# Altium integrated library NSC Interface.IntLib: 1288 symbols (part 39 of 45)
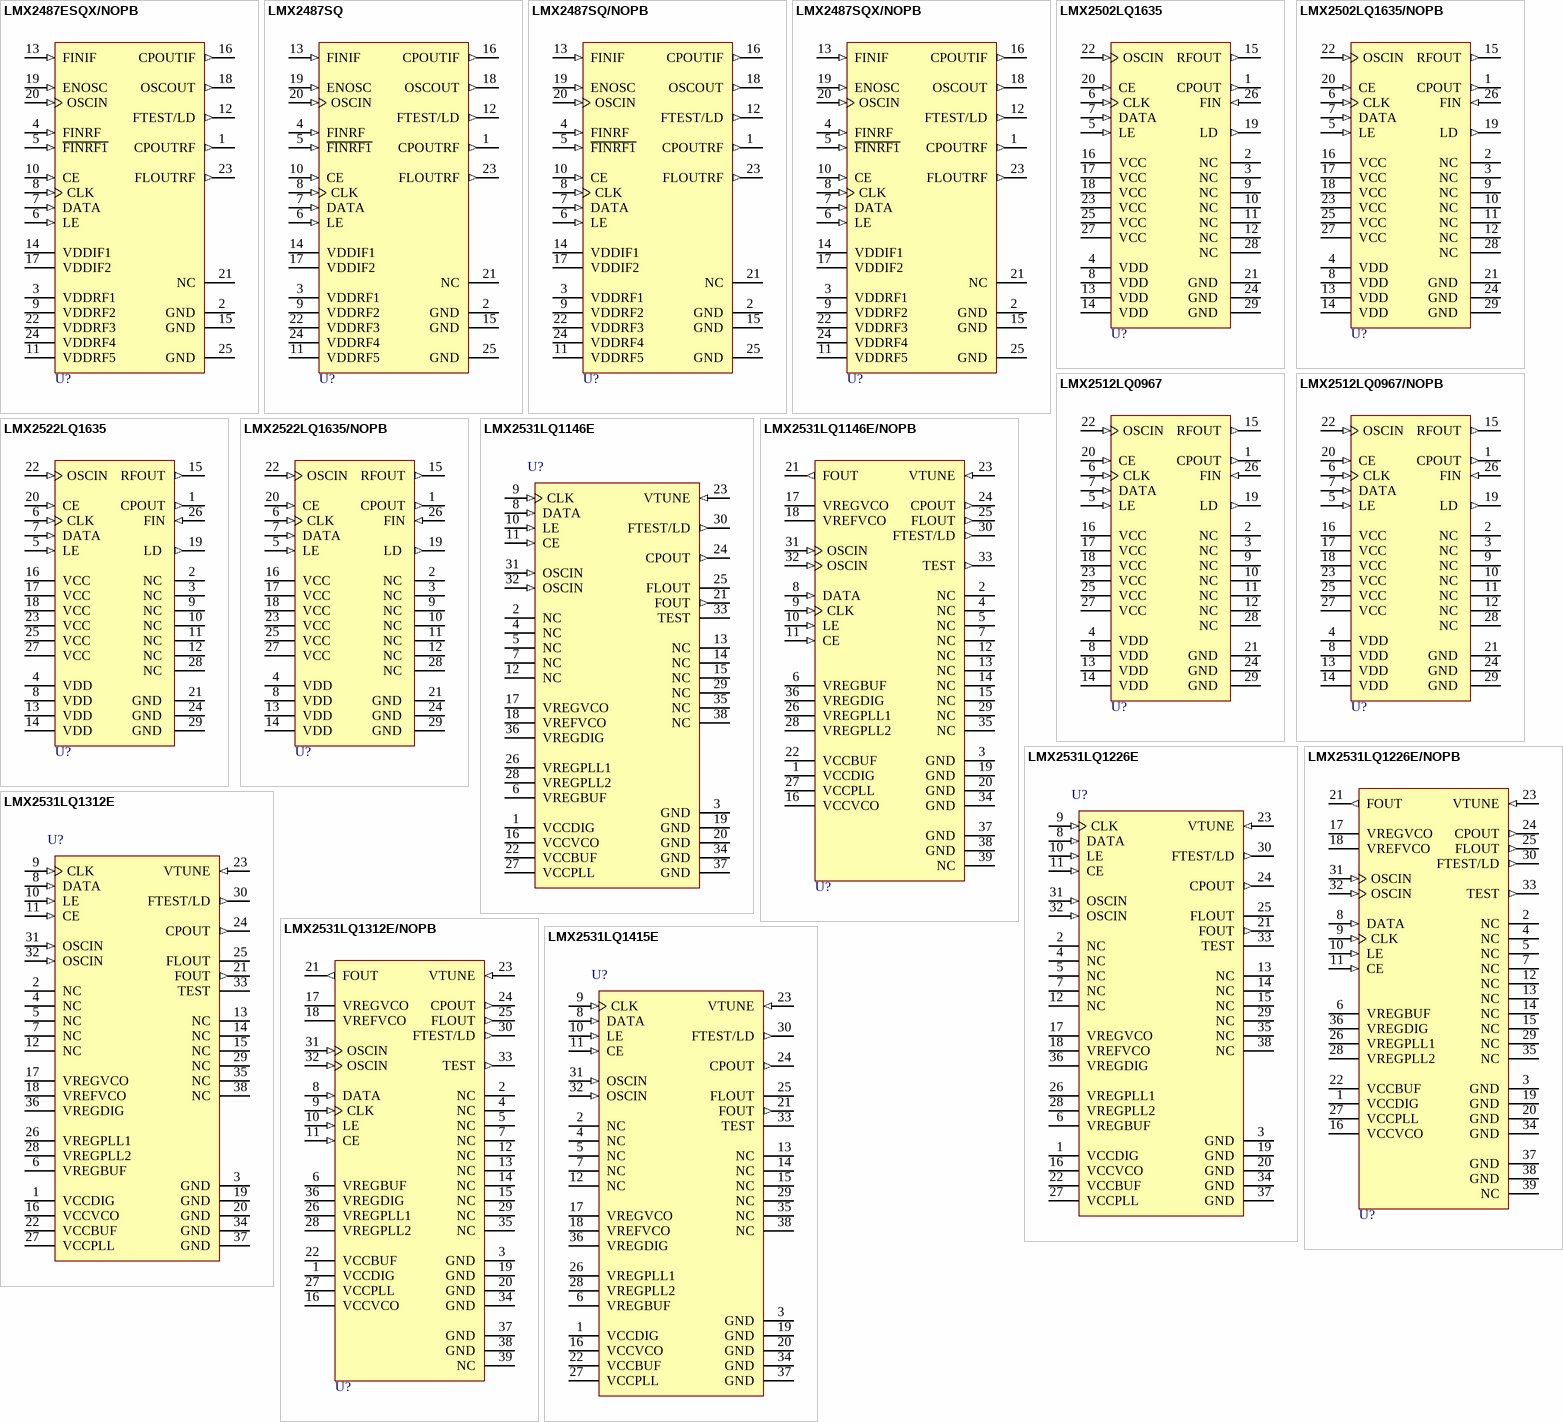
[diagram p150: symbols LMX2487ESQX/NOPB to LMX2531LQ1415E]

## LMX2531LQ1226E
designator U?
High Performance Frequency Synthesizer System with Integrated VCO, 36-pin LLP; PartNumber: LMX2531LQ1226E; Manufacturer: National Semiconductor; PackageTopMarking: NS*UZXYTT*311226E; PowerWise: Y; CompType: Interface IC; Published: 4-Dec-2008; LatestRevisionDate: 1-Mar-2010; LatestRevisionNote: Updated datasheet to revision Dec-2009; DatasheetVersion: Dec-2009; PackageVersion: revB, Feb-2008; PackageReference: LQA36D; Publisher: Altium Limited; PackageDescription: LLP, Plastic, Quad, 6 x 6 x 0.8mm Body, 36 Lead, 0.5mm Pitch, Custom; RoHS: Y; PinCount: 36; ComponentLink1Description: LMX2531LQ1226E Datasheet; ComponentLink1URL: http://www.national.com/ds/LM/LMX2531.pdf; ComponentLink2Description: LMX2531LQ1226E Web Page; ComponentLink2URL: http://www.national.com/pf/LM/LMX2531LQ1226E.html; ComponentLink3Description: LQA36A Package Page; ComponentLink3URL: http://www.national.com/packaging/folders/lqa36a.html
footprint LQA36D (PQFN, 36-Leads, Body 6x6mm, Pitch 0.5mm, NSC Recommended)
pins: 1 VCCDIG (power), 2 NC, 3 GND (power), 4 NC, 5 NC, 6 VREGBUF (power), 7 NC, 8 DATA (in), 9 CLK (in), 10 LE (in), 11 CE (in), 12 NC, 13 NC, 14 NC, 15 NC, 16 VCCVCO (power), 17 VREGVCO (power), 18 VREFVCO (power), 19 GND (power), 20 GND (power), 21 FOUT (out), 22 VCCBUF (power), 23 VTUNE (in), 24 CPOUT (out), 25 FLOUT (oc), 26 VREGPLL1 (power), 27 VCCPLL (power), 28 VREGPLL2 (power), 29 NC, 30 FTEST/LD (out), 31 OSCIN (in), 32 OSCIN (in), 33 TEST, 34 GND (power), 35 NC, 36 VREGDIG (power), 37 GND, 38 NC

## LMX2531LQ1226E/NOPB
designator U?
High Performance Frequency Synthesizer System with Integrated VCO, 36-pin LLP, Pb-Free; PartNumber: LMX2531LQ1226E/NOPB; Manufacturer: National Semiconductor; PackageTopMarking: NS*UZXYTTE#*311226E; PowerWise: Y; CompType: Interface IC; Published: 1-Mar-2010; DatasheetVersion: Dec-2009; PackageVersion: revC, Oct-2003; PackageReference: LQA36A; Publisher: Altium Limited; PackageDescription: LLP, Plastic, Quad, 6 x 6 x 0.8mm Body, 36 Lead, 0.5mm Pitch, Custom; Supplier 1: Digi-Key; Supplier Part Number 1: LMX2531LQ1226E-ND; RoHS: Y; PinCount: 36; ComponentLink1Description: LMX2531 Datasheet; ComponentLink1URL: http://www.national.com/ds/LM/LMX2531.pdf; ComponentLink2Description: LMX2531 Web Page; ComponentLink2URL: http://www.national.com/pf/LM/LMX2531.html; ComponentLink3Description: LQA36A Package Page; ComponentLink3URL: http://www.national.com/packaging/folders/lqa36a.html
footprint LQA36A (PQFN, 36-Leads, Body 6x6mm, Pitch 0.5mm, NSC Recommended)
pins: 1 VCCDIG (power), 2 NC, 3 GND (power), 4 NC, 5 NC, 6 VREGBUF (power), 7 NC, 8 DATA (in), 9 CLK (in), 10 LE (in), 11 CE (in), 12 NC, 13 NC, 14 NC, 15 NC, 16 VCCVCO (power), 17 VREGVCO (power), 18 VREFVCO (power), 19 GND (power), 20 GND (power), 21 FOUT (out), 22 VCCBUF (power), 23 VTUNE (in), 24 CPOUT (out), 25 FLOUT (out), 26 VREGPLL1 (power), 27 VCCPLL (power), 28 VREGPLL2 (power), 29 NC, 30 FTEST/LD (out), 31 OSCIN (in), 32 OSCIN (in), 33 TEST (out), 34 GND (power), 35 NC, 36 VREGDIG (power), 37 GND (power), 38 GND (power), 39 NC

## LMX2531LQ1312E
designator U?
High Performance Frequency Synthesizer System with Integrated VCO, 36-pin LLP; PartNumber: LMX2531LQ1312E; Manufacturer: National Semiconductor; PackageTopMarking: NS*UZXYTT*311312E; PowerWise: Y; CompType: Interface IC; Published: 4-Dec-2008; LatestRevisionDate: 1-Mar-2010; LatestRevisionNote: Updated datasheet to revision Dec-2009; DatasheetVersion: Dec-2009; PackageVersion: revB, Feb-2008; PackageReference: LQA36D; Publisher: Altium Limited; PackageDescription: LLP, Plastic, Quad, 6 x 6 x 0.8mm Body, 36 Lead, 0.5mm Pitch, Custom; Supplier 1: Farnell; Supplier Part Number 1: 1609185; RoHS: Y; PinCount: 36; ComponentLink1Description: LMX2531LQ1312E Datasheet; ComponentLink1URL: http://www.national.com/ds/LM/LMX2531.pdf; ComponentLink2Description: LMX2531LQ1312E Web Page; ComponentLink2URL: http://www.national.com/pf/LM/LMX2531LQ1312E.html; ComponentLink3Description: LQA36A Package Page; ComponentLink3URL: http://www.national.com/packaging/folders/lqa36a.html
footprint LQA36D (PQFN, 36-Leads, Body 6x6mm, Pitch 0.5mm, NSC Recommended)
pins: 1 VCCDIG (power), 2 NC, 3 GND (power), 4 NC, 5 NC, 6 VREGBUF (power), 7 NC, 8 DATA (in), 9 CLK (in), 10 LE (in), 11 CE (in), 12 NC, 13 NC, 14 NC, 15 NC, 16 VCCVCO (power), 17 VREGVCO (power), 18 VREFVCO (power), 19 GND (power), 20 GND (power), 21 FOUT (out), 22 VCCBUF (power), 23 VTUNE (in), 24 CPOUT (out), 25 FLOUT (oc), 26 VREGPLL1 (power), 27 VCCPLL (power), 28 VREGPLL2 (power), 29 NC, 30 FTEST/LD (out), 31 OSCIN (in), 32 OSCIN (in), 33 TEST, 34 GND (power), 35 NC, 36 VREGDIG (power), 37 GND, 38 NC

## LMX2531LQ1312E/NOPB
designator U?
High Performance Frequency Synthesizer System with Integrated VCO, 36-pin LLP, Pb-Free; PartNumber: LMX2531LQ1312E/NOPB; Manufacturer: National Semiconductor; PackageTopMarking: NS*UZXYTTE#*311312E; PowerWise: Y; CompType: Interface IC; Published: 1-Mar-2010; DatasheetVersion: Dec-2009; PackageVersion: revC, Oct-2003; PackageReference: LQA36A; Publisher: Altium Limited; PackageDescription: LLP, Plastic, Quad, 6 x 6 x 0.8mm Body, 36 Lead, 0.5mm Pitch, Custom; Supplier 1: Digi-Key; Supplier Part Number 1: LMX2531LQ1312E-ND; RoHS: Y; PinCount: 36; ComponentLink1Description: LMX2531 Datasheet; ComponentLink1URL: http://www.national.com/ds/LM/LMX2531.pdf; ComponentLink2Description: LMX2531 Web Page; ComponentLink2URL: http://www.national.com/pf/LM/LMX2531.html; ComponentLink3Description: LQA36A Package Page; ComponentLink3URL: http://www.national.com/packaging/folders/lqa36a.html
footprint LQA36A (PQFN, 36-Leads, Body 6x6mm, Pitch 0.5mm, NSC Recommended)
pins: 1 VCCDIG (power), 2 NC, 3 GND (power), 4 NC, 5 NC, 6 VREGBUF (power), 7 NC, 8 DATA (in), 9 CLK (in), 10 LE (in), 11 CE (in), 12 NC, 13 NC, 14 NC, 15 NC, 16 VCCVCO (power), 17 VREGVCO (power), 18 VREFVCO (power), 19 GND (power), 20 GND (power), 21 FOUT (out), 22 VCCBUF (power), 23 VTUNE (in), 24 CPOUT (out), 25 FLOUT (out), 26 VREGPLL1 (power), 27 VCCPLL (power), 28 VREGPLL2 (power), 29 NC, 30 FTEST/LD (out), 31 OSCIN (in), 32 OSCIN (in), 33 TEST (out), 34 GND (power), 35 NC, 36 VREGDIG (power), 37 GND (power), 38 GND (power), 39 NC

## LMX2531LQ1415E
designator U?
High Performance Frequency Synthesizer System with Integrated VCO, 36-pin LLP; PartNumber: LMX2531LQ1415E; Manufacturer: National Semiconductor; PackageTopMarking: NS*UZXYTT*311415E; PowerWise: Y; CompType: Interface IC; Published: 4-Dec-2008; LatestRevisionDate: 1-Mar-2010; LatestRevisionNote: Updated datasheet to revision Dec-2009; DatasheetVersion: Dec-2009; PackageVersion: revB, Feb-2008; PackageReference: LQA36D; Publisher: Altium Limited; PackageDescription: LLP, Plastic, Quad, 6 x 6 x 0.8mm Body, 36 Lead, 0.5mm Pitch, Custom; Supplier 1: Farnell; Supplier Part Number 1: 1609186; RoHS: Y; PinCount: 36; ComponentLink1Description: LMX2531LQ1415E Datasheet; ComponentLink1URL: http://www.national.com/ds/LM/LMX2531.pdf; ComponentLink2Description: LMX2531LQ1415E Web Page; ComponentLink2URL: http://www.national.com/pf/LM/LMX2531LQ1415E.html; ComponentLink3Description: LQA36A Package Page; ComponentLink3URL: http://www.national.com/packaging/folders/lqa36a.html
footprint LQA36D (PQFN, 36-Leads, Body 6x6mm, Pitch 0.5mm, NSC Recommended)
pins: 1 VCCDIG (power), 2 NC, 3 GND (power), 4 NC, 5 NC, 6 VREGBUF (power), 7 NC, 8 DATA (in), 9 CLK (in), 10 LE (in), 11 CE (in), 12 NC, 13 NC, 14 NC, 15 NC, 16 VCCVCO (power), 17 VREGVCO (power), 18 VREFVCO (power), 19 GND (power), 20 GND (power), 21 FOUT (out), 22 VCCBUF (power), 23 VTUNE (in), 24 CPOUT (out), 25 FLOUT (oc), 26 VREGPLL1 (power), 27 VCCPLL (power), 28 VREGPLL2 (power), 29 NC, 30 FTEST/LD (out), 31 OSCIN (in), 32 OSCIN (in), 33 TEST, 34 GND (power), 35 NC, 36 VREGDIG (power), 37 GND, 38 NC

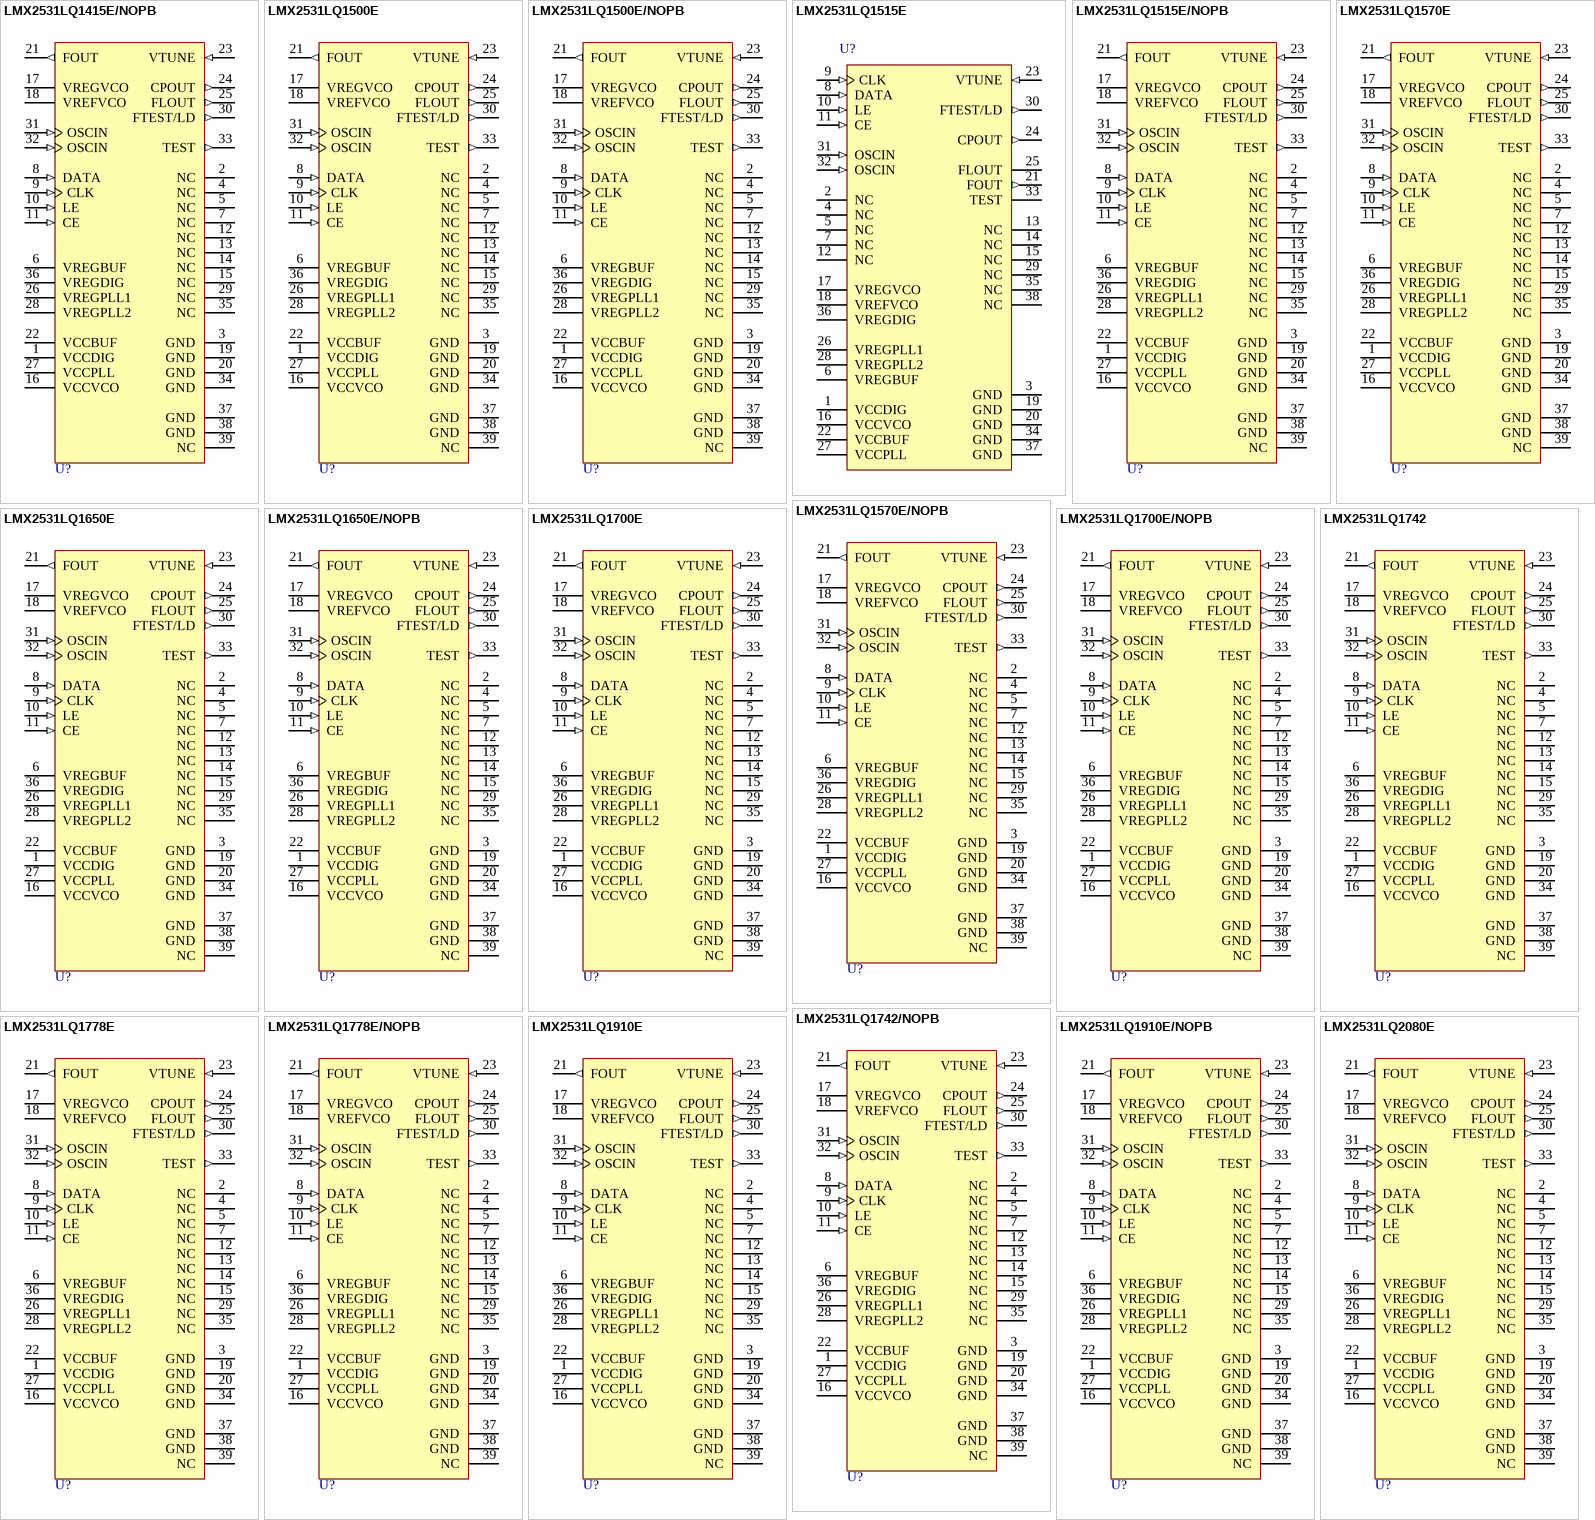
[diagram p95: symbols LMX2531LQ1415E/NOPB to LMX2531LQ2080E]

## LMX2531LQ1415E/NOPB
designator U?
High Performance Frequency Synthesizer System with Integrated VCO, 36-pin LLP, Pb-Free; PartNumber: LMX2531LQ1415E/NOPB; Manufacturer: National Semiconductor; PackageTopMarking: NS*UZXYTTE#*311415E; PowerWise: Y; CompType: Interface IC; Published: 1-Mar-2010; DatasheetVersion: Dec-2009; PackageVersion: revC, Oct-2003; PackageReference: LQA36A; Publisher: Altium Limited; PackageDescription: LLP, Plastic, Quad, 6 x 6 x 0.8mm Body, 36 Lead, 0.5mm Pitch, Custom; Supplier 1: Digi-Key; Supplier Part Number 1: LMX2531LQ1415E-ND; RoHS: Y; PinCount: 36; ComponentLink1Description: LMX2531 Datasheet; ComponentLink1URL: http://www.national.com/ds/LM/LMX2531.pdf; ComponentLink2Description: LMX2531 Web Page; ComponentLink2URL: http://www.national.com/pf/LM/LMX2531.html; ComponentLink3Description: LQA36A Package Page; ComponentLink3URL: http://www.national.com/packaging/folders/lqa36a.html
footprint LQA36A (PQFN, 36-Leads, Body 6x6mm, Pitch 0.5mm, NSC Recommended)
pins: 1 VCCDIG (power), 2 NC, 3 GND (power), 4 NC, 5 NC, 6 VREGBUF (power), 7 NC, 8 DATA (in), 9 CLK (in), 10 LE (in), 11 CE (in), 12 NC, 13 NC, 14 NC, 15 NC, 16 VCCVCO (power), 17 VREGVCO (power), 18 VREFVCO (power), 19 GND (power), 20 GND (power), 21 FOUT (out), 22 VCCBUF (power), 23 VTUNE (in), 24 CPOUT (out), 25 FLOUT (out), 26 VREGPLL1 (power), 27 VCCPLL (power), 28 VREGPLL2 (power), 29 NC, 30 FTEST/LD (out), 31 OSCIN (in), 32 OSCIN (in), 33 TEST (out), 34 GND (power), 35 NC, 36 VREGDIG (power), 37 GND (power), 38 GND (power), 39 NC

## LMX2531LQ1500E
designator U?
High Performance Frequency Synthesizer System with Integrated VCO, 38-pin LLP; PartNumber: LMX2531LQ1500E; Manufacturer: National Semiconductor; PackageTopMarking: NS*UZXYTT*311500EB; PowerWise: Y; CompType: Interface IC; Published: 4-Dec-2008; LatestRevisionDate: 1-Mar-2010; LatestRevisionNote: Updated datasheet to revision Dec-2009; DatasheetVersion: Dec-2009; PackageVersion: revC, Oct-2003; PackageReference: LQA36A; Publisher: Altium Limited; PackageDescription: LLP, Plastic, Quad, 6 x 6 x 0.8mm Body, 36 Lead, 0.5mm Pitch, Custom; RoHS: Y; PinCount: 36; ComponentLink1Description: LMX2531LQ1500EDatasheet; ComponentLink1URL: http://www.national.com/ds/LM/LMX2531.pdf; ComponentLink2Description: LMX2531LQ1500E Web Page; ComponentLink2URL: http://www.national.com/pf/LM/LMX2531LQ1500E.html; ComponentLink3Description: LQA36A Package Page; ComponentLink3URL: http://www.national.com/packaging/folders/lqa36a.html
footprint LQA36A (PQFN, 36-Leads, Body 6x6mm, Pitch 0.5mm, NSC Recommended)
pins: 1 VCCDIG (power), 2 NC, 3 GND (power), 4 NC, 5 NC, 6 VREGBUF (power), 7 NC, 8 DATA (in), 9 CLK (in), 10 LE (in), 11 CE (in), 12 NC, 13 NC, 14 NC, 15 NC, 16 VCCVCO (power), 17 VREGVCO (power), 18 VREFVCO (power), 19 GND (power), 20 GND (power), 21 FOUT (out), 22 VCCBUF (power), 23 VTUNE (in), 24 CPOUT (out), 25 FLOUT (out), 26 VREGPLL1 (power), 27 VCCPLL (power), 28 VREGPLL2 (power), 29 NC, 30 FTEST/LD (out), 31 OSCIN (in), 32 OSCIN (in), 33 TEST (out), 34 GND (power), 35 NC, 36 VREGDIG (power), 37 GND (power), 38 GND (power), 39 NC

## LMX2531LQ1500E/NOPB
designator U?
High Performance Frequency Synthesizer System with Integrated VCO, 36-pin LLP, Pb-Free; PartNumber: LMX2531LQ1500E/NOPB; Manufacturer: National Semiconductor; PackageTopMarking: NS*UZXYTTE#*311500EB; PowerWise: Y; CompType: Interface IC; Published: 1-Mar-2010; LatestRevisionDate: 1-Mar-2010; LatestRevisionNote: Updated datasheet to revision Dec-2009; DatasheetVersion: Dec-2009; PackageVersion: revC, Oct-2003; PackageReference: LQA36A; Publisher: Altium Limited; PackageDescription: LLP, Plastic, Quad, 6 x 6 x 0.8mm Body, 36 Lead, 0.5mm Pitch, Custom; Supplier 1: Digi-Key; Supplier Part Number 1: LMX2531LQ1500ETR-ND; Supplier 2: Digi-Key; Supplier Part Number 2: LMX2531LQ1500ECT-ND; Supplier 3: Digi-Key; Supplier Part Number 3: LMX2531LQ1500EDKR-ND; Supplier 4: Farnell; Supplier Part Number 4: 1694487; RoHS: Y; PinCount: 36; ComponentLink1Description: LMX2531LQ1500E Datasheet; ComponentLink1URL: http://www.national.com/ds/LM/LMX2531.pdf; ComponentLink2Description: LMX2531LQ1500E Web Page; ComponentLink2URL: http://www.national.com/pf/LM/LMX2531LQ1500E.html; ComponentLink3Description: LQA36A Package Page; ComponentLink3URL: http://www.national.com/packaging/folders/lqa36a.html
footprint LQA36A (PQFN, 36-Leads, Body 6x6mm, Pitch 0.5mm, NSC Recommended)
pins: 1 VCCDIG (power), 2 NC, 3 GND (power), 4 NC, 5 NC, 6 VREGBUF (power), 7 NC, 8 DATA (in), 9 CLK (in), 10 LE (in), 11 CE (in), 12 NC, 13 NC, 14 NC, 15 NC, 16 VCCVCO (power), 17 VREGVCO (power), 18 VREFVCO (power), 19 GND (power), 20 GND (power), 21 FOUT (out), 22 VCCBUF (power), 23 VTUNE (in), 24 CPOUT (out), 25 FLOUT (out), 26 VREGPLL1 (power), 27 VCCPLL (power), 28 VREGPLL2 (power), 29 NC, 30 FTEST/LD (out), 31 OSCIN (in), 32 OSCIN (in), 33 TEST (out), 34 GND (power), 35 NC, 36 VREGDIG (power), 37 GND (power), 38 GND (power), 39 NC

## LMX2531LQ1515E
designator U?
High Performance Frequency Synthesizer System with Integrated VCO, 36-pin LLP; PartNumber: LMX2531LQ1515E; Manufacturer: National Semiconductor; PackageTopMarking: NS*UZXYTT*311515E; PowerWise: Y; CompType: Interface IC; Published: 4-Dec-2008; LatestRevisionDate: 1-Mar-2010; LatestRevisionNote: Updated datasheet to revision Dec-2009; DatasheetVersion: Dec-2009; PackageVersion: revB, Feb-2008; PackageReference: LQA36D; Publisher: Altium Limited; PackageDescription: LLP, Plastic, Quad, 6 x 6 x 0.8mm Body, 36 Lead, 0.5mm Pitch, Custom; Supplier 1: Farnell; Supplier Part Number 1: 1609181; RoHS: Y; PinCount: 36; ComponentLink1Description: LMX2531LQ1515E Datasheet; ComponentLink1URL: http://www.national.com/ds/LM/LMX2531.pdf; ComponentLink2Description: LMX2531LQ1515E Web Page; ComponentLink2URL: http://www.national.com/pf/LM/LMX2531LQ1515E.html; ComponentLink3Description: LQA36A Package Page; ComponentLink3URL: http://www.national.com/packaging/folders/lqa36a.html
footprint LQA36D (PQFN, 36-Leads, Body 6x6mm, Pitch 0.5mm, NSC Recommended)
pins: 1 VCCDIG (power), 2 NC, 3 GND (power), 4 NC, 5 NC, 6 VREGBUF (power), 7 NC, 8 DATA (in), 9 CLK (in), 10 LE (in), 11 CE (in), 12 NC, 13 NC, 14 NC, 15 NC, 16 VCCVCO (power), 17 VREGVCO (power), 18 VREFVCO (power), 19 GND (power), 20 GND (power), 21 FOUT (out), 22 VCCBUF (power), 23 VTUNE (in), 24 CPOUT (out), 25 FLOUT (oc), 26 VREGPLL1 (power), 27 VCCPLL (power), 28 VREGPLL2 (power), 29 NC, 30 FTEST/LD (out), 31 OSCIN (in), 32 OSCIN (in), 33 TEST, 34 GND (power), 35 NC, 36 VREGDIG (power), 37 GND, 38 NC

## LMX2531LQ1515E/NOPB
designator U?
High Performance Frequency Synthesizer System with Integrated VCO, 36-pin LLP, Pb-Free; PartNumber: LMX2531LQ1515E/NOPB; Manufacturer: National Semiconductor; PackageTopMarking: NS*UZXYTTE#*311515E; PowerWise: Y; CompType: Interface IC; Published: 1-Mar-2010; DatasheetVersion: Dec-2009; PackageVersion: revC, Oct-2003; PackageReference: LQA36A; Publisher: Altium Limited; PackageDescription: LLP, Plastic, Quad, 6 x 6 x 0.8mm Body, 36 Lead, 0.5mm Pitch, Custom; Supplier 1: Digi-Key; Supplier Part Number 1: LMX2531LQ1515E/NOPBTR-ND; Supplier 2: Digi-Key; Supplier Part Number 2: LMX2531LQ1515E/NOPBCT-ND; Supplier 3: Digi-Key; Supplier Part Number 3: LMX2531LQ1515E/NOPBDKR-ND; Supplier 4: Farnell; Supplier Part Number 4: 1654247; RoHS: Y; PinCount: 36; ComponentLink1Description: LMX2531 Datasheet; ComponentLink1URL: http://www.national.com/ds/LM/LMX2531.pdf; ComponentLink2Description: LMX2531 Web Page; ComponentLink2URL: http://www.national.com/pf/LM/LMX2531.html; ComponentLink3Description: LQA36A Package Page; ComponentLink3URL: http://www.national.com/packaging/folders/lqa36a.html
footprint LQA36A (PQFN, 36-Leads, Body 6x6mm, Pitch 0.5mm, NSC Recommended)
pins: 1 VCCDIG (power), 2 NC, 3 GND (power), 4 NC, 5 NC, 6 VREGBUF (power), 7 NC, 8 DATA (in), 9 CLK (in), 10 LE (in), 11 CE (in), 12 NC, 13 NC, 14 NC, 15 NC, 16 VCCVCO (power), 17 VREGVCO (power), 18 VREFVCO (power), 19 GND (power), 20 GND (power), 21 FOUT (out), 22 VCCBUF (power), 23 VTUNE (in), 24 CPOUT (out), 25 FLOUT (out), 26 VREGPLL1 (power), 27 VCCPLL (power), 28 VREGPLL2 (power), 29 NC, 30 FTEST/LD (out), 31 OSCIN (in), 32 OSCIN (in), 33 TEST (out), 34 GND (power), 35 NC, 36 VREGDIG (power), 37 GND (power), 38 GND (power), 39 NC

## LMX2531LQ1570E
designator U?
High Performance Frequency Synthesizer System with Integrated VCO, 38-pin LLP; PartNumber: LMX2531LQ1570E; Manufacturer: National Semiconductor; PackageTopMarking: NS*UZXYTT*311570EB; PowerWise: Y; CompType: Interface IC; Published: 4-Dec-2008; LatestRevisionDate: 1-Mar-2010; LatestRevisionNote: Updated datasheet to revision Dec-2009; DatasheetVersion: Dec-2009; PackageVersion: revC, Oct-2003; PackageReference: LQA36A; Publisher: Altium Limited; PackageDescription: LLP, Plastic, Quad, 6 x 6 x 0.8mm Body, 36 Lead, 0.5mm Pitch, Custom; RoHS: Y; PinCount: 36; ComponentLink1Description: LMX2531LQ1570EDatasheet; ComponentLink1URL: http://www.national.com/ds/LM/LMX2531.pdf; ComponentLink2Description: LMX2531LQ1570E Web Page; ComponentLink2URL: http://www.national.com/pf/LM/LMX2531LQ1570E.html; ComponentLink3Description: LQA36A Package Page; ComponentLink3URL: http://www.national.com/packaging/folders/lqa36a.html
footprint LQA36A (PQFN, 36-Leads, Body 6x6mm, Pitch 0.5mm, NSC Recommended)
pins: 1 VCCDIG (power), 2 NC, 3 GND (power), 4 NC, 5 NC, 6 VREGBUF (power), 7 NC, 8 DATA (in), 9 CLK (in), 10 LE (in), 11 CE (in), 12 NC, 13 NC, 14 NC, 15 NC, 16 VCCVCO (power), 17 VREGVCO (power), 18 VREFVCO (power), 19 GND (power), 20 GND (power), 21 FOUT (out), 22 VCCBUF (power), 23 VTUNE (in), 24 CPOUT (out), 25 FLOUT (out), 26 VREGPLL1 (power), 27 VCCPLL (power), 28 VREGPLL2 (power), 29 NC, 30 FTEST/LD (out), 31 OSCIN (in), 32 OSCIN (in), 33 TEST (out), 34 GND (power), 35 NC, 36 VREGDIG (power), 37 GND (power), 38 GND (power), 39 NC

## LMX2531LQ1570E/NOPB
designator U?
High Performance Frequency Synthesizer System with Integrated VCO, 36-pin LLP, Pb-Free; PartNumber: LMX2531LQ1570E/NOPB; Manufacturer: National Semiconductor; PackageTopMarking: NS*UZXYTTE#*311570EB; PowerWise: Y; CompType: Interface IC; Published: 1-Mar-2010; DatasheetVersion: Dec-2009; PackageVersion: revC, Oct-2003; PackageReference: LQA36A; Publisher: Altium Limited; PackageDescription: LLP, Plastic, Quad, 6 x 6 x 0.8mm Body, 36 Lead, 0.5mm Pitch, Custom; Supplier 1: Digi-Key; Supplier Part Number 1: LMX2531LQ1570ETR-ND; Supplier 2: Digi-Key; Supplier Part Number 2: LMX2531LQ1570ECT-ND; Supplier 3: Digi-Key; Supplier Part Number 3: LMX2531LQ1570EDKR-ND; RoHS: Y; PinCount: 36; ComponentLink1Description: LMX2531 Datasheet; ComponentLink1URL: http://www.national.com/ds/LM/LMX2531.pdf; ComponentLink2Description: LMX2531 Web Page; ComponentLink2URL: http://www.national.com/pf/LM/LMX2531.html; ComponentLink3Description: LQA36A Package Page; ComponentLink3URL: http://www.national.com/packaging/folders/lqa36a.html
footprint LQA36A (PQFN, 36-Leads, Body 6x6mm, Pitch 0.5mm, NSC Recommended)
pins: 1 VCCDIG (power), 2 NC, 3 GND (power), 4 NC, 5 NC, 6 VREGBUF (power), 7 NC, 8 DATA (in), 9 CLK (in), 10 LE (in), 11 CE (in), 12 NC, 13 NC, 14 NC, 15 NC, 16 VCCVCO (power), 17 VREGVCO (power), 18 VREFVCO (power), 19 GND (power), 20 GND (power), 21 FOUT (out), 22 VCCBUF (power), 23 VTUNE (in), 24 CPOUT (out), 25 FLOUT (out), 26 VREGPLL1 (power), 27 VCCPLL (power), 28 VREGPLL2 (power), 29 NC, 30 FTEST/LD (out), 31 OSCIN (in), 32 OSCIN (in), 33 TEST (out), 34 GND (power), 35 NC, 36 VREGDIG (power), 37 GND (power), 38 GND (power), 39 NC

## LMX2531LQ1650E
designator U?
High Performance Frequency Synthesizer System with Integrated VCO, 38-pin LLP; PartNumber: LMX2531LQ1650E; Manufacturer: National Semiconductor; PackageTopMarking: NS*UZXYTT*311650EA; PowerWise: Y; CompType: Interface IC; Published: 4-Dec-2008; LatestRevisionDate: 1-Mar-2010; LatestRevisionNote: Updated datasheet to revision Dec-2009; DatasheetVersion: Dec-2009; PackageVersion: revC, Oct-2003; PackageReference: LQA36A; Publisher: Altium Limited; PackageDescription: LLP, Plastic, Quad, 6 x 6 x 0.8mm Body, 36 Lead, 0.5mm Pitch, Custom; RoHS: Y; PinCount: 36; ComponentLink1Description: LMX2531LQ1650EDatasheet; ComponentLink1URL: http://www.national.com/ds/LM/LMX2531.pdf; ComponentLink2Description: LMX2531LQ1650E Web Page; ComponentLink2URL: http://www.national.com/pf/LM/LMX2531LQ1650E.html; ComponentLink3Description: LQA36A Package Page; ComponentLink3URL: http://www.national.com/packaging/folders/lqa36a.html
footprint LQA36A (PQFN, 36-Leads, Body 6x6mm, Pitch 0.5mm, NSC Recommended)
pins: 1 VCCDIG (power), 2 NC, 3 GND (power), 4 NC, 5 NC, 6 VREGBUF (power), 7 NC, 8 DATA (in), 9 CLK (in), 10 LE (in), 11 CE (in), 12 NC, 13 NC, 14 NC, 15 NC, 16 VCCVCO (power), 17 VREGVCO (power), 18 VREFVCO (power), 19 GND (power), 20 GND (power), 21 FOUT (out), 22 VCCBUF (power), 23 VTUNE (in), 24 CPOUT (out), 25 FLOUT (out), 26 VREGPLL1 (power), 27 VCCPLL (power), 28 VREGPLL2 (power), 29 NC, 30 FTEST/LD (out), 31 OSCIN (in), 32 OSCIN (in), 33 TEST (out), 34 GND (power), 35 NC, 36 VREGDIG (power), 37 GND (power), 38 GND (power), 39 NC

## LMX2531LQ1650E/NOPB
designator U?
High Performance Frequency Synthesizer System with Integrated VCO, 36-pin LLP, Pb-Free; PartNumber: LMX2531LQ1650E/NOPB; Manufacturer: National Semiconductor; PackageTopMarking: NS*UZXYTTE#*311650EA; PowerWise: Y; CompType: Interface IC; Published: 1-Mar-2010; DatasheetVersion: Dec-2009; PackageVersion: revC, Oct-2003; PackageReference: LQA36A; Publisher: Altium Limited; PackageDescription: LLP, Plastic, Quad, 6 x 6 x 0.8mm Body, 36 Lead, 0.5mm Pitch, Custom; RoHS: Y; PinCount: 36; ComponentLink1Description: LMX2531 Datasheet; ComponentLink1URL: http://www.national.com/ds/LM/LMX2531.pdf; ComponentLink2Description: LMX2531 Web Page; ComponentLink2URL: http://www.national.com/pf/LM/LMX2531.html; ComponentLink3Description: LQA36A Package Page; ComponentLink3URL: http://www.national.com/packaging/folders/lqa36a.html
footprint LQA36A (PQFN, 36-Leads, Body 6x6mm, Pitch 0.5mm, NSC Recommended)
pins: 1 VCCDIG (power), 2 NC, 3 GND (power), 4 NC, 5 NC, 6 VREGBUF (power), 7 NC, 8 DATA (in), 9 CLK (in), 10 LE (in), 11 CE (in), 12 NC, 13 NC, 14 NC, 15 NC, 16 VCCVCO (power), 17 VREGVCO (power), 18 VREFVCO (power), 19 GND (power), 20 GND (power), 21 FOUT (out), 22 VCCBUF (power), 23 VTUNE (in), 24 CPOUT (out), 25 FLOUT (out), 26 VREGPLL1 (power), 27 VCCPLL (power), 28 VREGPLL2 (power), 29 NC, 30 FTEST/LD (out), 31 OSCIN (in), 32 OSCIN (in), 33 TEST (out), 34 GND (power), 35 NC, 36 VREGDIG (power), 37 GND (power), 38 GND (power), 39 NC

## LMX2531LQ1700E
designator U?
High Performance Frequency Synthesizer System with Integrated VCO, 38-pin LLP; PartNumber: LMX2531LQ1700E; Manufacturer: National Semiconductor; PackageTopMarking: NS*UZXYTT*311700EB; PowerWise: Y; CompType: Interface IC; Published: 4-Dec-2008; LatestRevisionDate: 1-Mar-2010; LatestRevisionNote: Updated datasheet to revision Dec-2009; DatasheetVersion: Dec-2009; PackageVersion: revC, Oct-2003; PackageReference: LQA36A; Publisher: Altium Limited; PackageDescription: LLP, Plastic, Quad, 6 x 6 x 0.8mm Body, 36 Lead, 0.5mm Pitch, Custom; RoHS: Y; PinCount: 36; ComponentLink1Description: LMX2531LQ1700EDatasheet; ComponentLink1URL: http://www.national.com/ds/LM/LMX2531.pdf; ComponentLink2Description: LMX2531LQ1700E Web Page; ComponentLink2URL: http://www.national.com/pf/LM/LMX2531LQ1700E.html; ComponentLink3Description: LQA36A Package Page; ComponentLink3URL: http://www.national.com/packaging/folders/lqa36a.html
footprint LQA36A (PQFN, 36-Leads, Body 6x6mm, Pitch 0.5mm, NSC Recommended)
pins: 1 VCCDIG (power), 2 NC, 3 GND (power), 4 NC, 5 NC, 6 VREGBUF (power), 7 NC, 8 DATA (in), 9 CLK (in), 10 LE (in), 11 CE (in), 12 NC, 13 NC, 14 NC, 15 NC, 16 VCCVCO (power), 17 VREGVCO (power), 18 VREFVCO (power), 19 GND (power), 20 GND (power), 21 FOUT (out), 22 VCCBUF (power), 23 VTUNE (in), 24 CPOUT (out), 25 FLOUT (out), 26 VREGPLL1 (power), 27 VCCPLL (power), 28 VREGPLL2 (power), 29 NC, 30 FTEST/LD (out), 31 OSCIN (in), 32 OSCIN (in), 33 TEST (out), 34 GND (power), 35 NC, 36 VREGDIG (power), 37 GND (power), 38 GND (power), 39 NC

## LMX2531LQ1700E/NOPB
designator U?
High Performance Frequency Synthesizer System with Integrated VCO, 36-pin LLP, Pb-Free; PartNumber: LMX2531LQ1700E/NOPB; Manufacturer: National Semiconductor; PackageTopMarking: NS*UZXYTTE#*311700EB; PowerWise: Y; CompType: Interface IC; Published: 1-Mar-2010; DatasheetVersion: Dec-2009; PackageVersion: revC, Oct-2003; PackageReference: LQA36A; Publisher: Altium Limited; PackageDescription: LLP, Plastic, Quad, 6 x 6 x 0.8mm Body, 36 Lead, 0.5mm Pitch, Custom; RoHS: Y; PinCount: 36; ComponentLink1Description: LMX2531 Datasheet; ComponentLink1URL: http://www.national.com/ds/LM/LMX2531.pdf; ComponentLink2Description: LMX2531 Web Page; ComponentLink2URL: http://www.national.com/pf/LM/LMX2531.html; ComponentLink3Description: LQA36A Package Page; ComponentLink3URL: http://www.national.com/packaging/folders/lqa36a.html
footprint LQA36A (PQFN, 36-Leads, Body 6x6mm, Pitch 0.5mm, NSC Recommended)
pins: 1 VCCDIG (power), 2 NC, 3 GND (power), 4 NC, 5 NC, 6 VREGBUF (power), 7 NC, 8 DATA (in), 9 CLK (in), 10 LE (in), 11 CE (in), 12 NC, 13 NC, 14 NC, 15 NC, 16 VCCVCO (power), 17 VREGVCO (power), 18 VREFVCO (power), 19 GND (power), 20 GND (power), 21 FOUT (out), 22 VCCBUF (power), 23 VTUNE (in), 24 CPOUT (out), 25 FLOUT (out), 26 VREGPLL1 (power), 27 VCCPLL (power), 28 VREGPLL2 (power), 29 NC, 30 FTEST/LD (out), 31 OSCIN (in), 32 OSCIN (in), 33 TEST (out), 34 GND (power), 35 NC, 36 VREGDIG (power), 37 GND (power), 38 GND (power), 39 NC

## LMX2531LQ1742
designator U?
High Performance Frequency Synthesizer System with Integrated VCO, 38-pin LLP; PartNumber: LMX2531LQ1742; Manufacturer: National Semiconductor; PackageTopMarking: NS*UZXYTT*311742A; PowerWise: Y; CompType: Interface IC; Published: 4-Dec-2008; LatestRevisionDate: 1-Mar-2010; LatestRevisionNote: Updated datasheet to revision Dec-2009; DatasheetVersion: Dec-2009; PackageVersion: revC, Oct-2003; PackageReference: LQA36A; Publisher: Altium Limited; PackageDescription: LLP, Plastic, Quad, 6 x 6 x 0.8mm Body, 36 Lead, 0.5mm Pitch, Custom; Supplier 1: Farnell; Supplier Part Number 1: 1471253; RoHS: Y; PinCount: 36; ComponentLink1Description: LMX2531LQ1742Datasheet; ComponentLink1URL: http://www.national.com/ds/LM/LMX2531.pdf; ComponentLink2Description: LMX2531LQ1742 Web Page; ComponentLink2URL: http://www.national.com/pf/LM/LMX2531LQ1742.html; ComponentLink3Description: LQA36A Package Page; ComponentLink3URL: http://www.national.com/packaging/folders/lqa36a.html
footprint LQA36A (PQFN, 36-Leads, Body 6x6mm, Pitch 0.5mm, NSC Recommended)
pins: 1 VCCDIG (power), 2 NC, 3 GND (power), 4 NC, 5 NC, 6 VREGBUF (power), 7 NC, 8 DATA (in), 9 CLK (in), 10 LE (in), 11 CE (in), 12 NC, 13 NC, 14 NC, 15 NC, 16 VCCVCO (power), 17 VREGVCO (power), 18 VREFVCO (power), 19 GND (power), 20 GND (power), 21 FOUT (out), 22 VCCBUF (power), 23 VTUNE (in), 24 CPOUT (out), 25 FLOUT (out), 26 VREGPLL1 (power), 27 VCCPLL (power), 28 VREGPLL2 (power), 29 NC, 30 FTEST/LD (out), 31 OSCIN (in), 32 OSCIN (in), 33 TEST (out), 34 GND (power), 35 NC, 36 VREGDIG (power), 37 GND (power), 38 GND (power), 39 NC

## LMX2531LQ1742/NOPB
designator U?
High Performance Frequency Synthesizer System with Integrated VCO, 36-pin LLP, Pb-Free; PartNumber: LMX2531LQ1742/NOPB; Manufacturer: National Semiconductor; PackageTopMarking: NS*UZXYTTE#*311742A; PowerWise: Y; CompType: Interface IC; Published: 1-Mar-2010; DatasheetVersion: Dec-2009; PackageVersion: revC, Oct-2003; PackageReference: LQA36A; Publisher: Altium Limited; PackageDescription: LLP, Plastic, Quad, 6 x 6 x 0.8mm Body, 36 Lead, 0.5mm Pitch, Custom; Supplier 1: Digi-Key; Supplier Part Number 1: LMX2531LQ1742TR-ND; Supplier 2: Digi-Key; Supplier Part Number 2: LMX2531LQ1742CT-ND; Supplier 3: Digi-Key; Supplier Part Number 3: LMX2531LQ1742DKR-ND; RoHS: Y; PinCount: 36; ComponentLink1Description: LMX2531 Datasheet; ComponentLink1URL: http://www.national.com/ds/LM/LMX2531.pdf; ComponentLink2Description: LMX2531 Web Page; ComponentLink2URL: http://www.national.com/pf/LM/LMX2531.html; ComponentLink3Description: LQA36A Package Page; ComponentLink3URL: http://www.national.com/packaging/folders/lqa36a.html
footprint LQA36A (PQFN, 36-Leads, Body 6x6mm, Pitch 0.5mm, NSC Recommended)
pins: 1 VCCDIG (power), 2 NC, 3 GND (power), 4 NC, 5 NC, 6 VREGBUF (power), 7 NC, 8 DATA (in), 9 CLK (in), 10 LE (in), 11 CE (in), 12 NC, 13 NC, 14 NC, 15 NC, 16 VCCVCO (power), 17 VREGVCO (power), 18 VREFVCO (power), 19 GND (power), 20 GND (power), 21 FOUT (out), 22 VCCBUF (power), 23 VTUNE (in), 24 CPOUT (out), 25 FLOUT (out), 26 VREGPLL1 (power), 27 VCCPLL (power), 28 VREGPLL2 (power), 29 NC, 30 FTEST/LD (out), 31 OSCIN (in), 32 OSCIN (in), 33 TEST (out), 34 GND (power), 35 NC, 36 VREGDIG (power), 37 GND (power), 38 GND (power), 39 NC

## LMX2531LQ1778E
designator U?
High Performance Frequency Synthesizer System with Integrated VCO, 38-pin LLP; PartNumber: LMX2531LQ1778E; Manufacturer: National Semiconductor; PackageTopMarking: NS*UZXYTT*311778EA; PowerWise: Y; CompType: Interface IC; Published: 4-Dec-2008; LatestRevisionDate: 1-Mar-2010; LatestRevisionNote: Updated datasheet to revision Dec-2009; DatasheetVersion: Dec-2009; PackageVersion: revC, Oct-2003; PackageReference: LQA36A; Publisher: Altium Limited; PackageDescription: LLP, Plastic, Quad, 6 x 6 x 0.8mm Body, 36 Lead, 0.5mm Pitch, Custom; RoHS: Y; PinCount: 36; ComponentLink1Description: LMX2531LQ1778EDatasheet; ComponentLink1URL: http://www.national.com/ds/LM/LMX2531.pdf; ComponentLink2Description: LMX2531LQ1778E Web Page; ComponentLink2URL: http://www.national.com/pf/LM/LMX2531LQ1778E.html; ComponentLink3Description: LQA36A Package Page; ComponentLink3URL: http://www.national.com/packaging/folders/lqa36a.html
footprint LQA36A (PQFN, 36-Leads, Body 6x6mm, Pitch 0.5mm, NSC Recommended)
pins: 1 VCCDIG (power), 2 NC, 3 GND (power), 4 NC, 5 NC, 6 VREGBUF (power), 7 NC, 8 DATA (in), 9 CLK (in), 10 LE (in), 11 CE (in), 12 NC, 13 NC, 14 NC, 15 NC, 16 VCCVCO (power), 17 VREGVCO (power), 18 VREFVCO (power), 19 GND (power), 20 GND (power), 21 FOUT (out), 22 VCCBUF (power), 23 VTUNE (in), 24 CPOUT (out), 25 FLOUT (out), 26 VREGPLL1 (power), 27 VCCPLL (power), 28 VREGPLL2 (power), 29 NC, 30 FTEST/LD (out), 31 OSCIN (in), 32 OSCIN (in), 33 TEST (out), 34 GND (power), 35 NC, 36 VREGDIG (power), 37 GND (power), 38 GND (power), 39 NC

## LMX2531LQ1778E/NOPB
designator U?
High Performance Frequency Synthesizer System with Integrated VCO, 36-pin LLP, Pb-Free; PartNumber: LMX2531LQ1778E/NOPB; Manufacturer: National Semiconductor; PackageTopMarking: NS*UZXYTTE#*311778EA; PowerWise: Y; CompType: Interface IC; Published: 1-Mar-2010; DatasheetVersion: Dec-2009; PackageVersion: revC, Oct-2003; PackageReference: LQA36A; Publisher: Altium Limited; PackageDescription: LLP, Plastic, Quad, 6 x 6 x 0.8mm Body, 36 Lead, 0.5mm Pitch, Custom; Supplier 1: Digi-Key; Supplier Part Number 1: LMX2531LQ1778ETR-ND; Supplier 2: Digi-Key; Supplier Part Number 2: LMX2531LQ1778ECT-ND; Supplier 3: Digi-Key; Supplier Part Number 3: LMX2531LQ1778EDKR-ND; RoHS: Y; PinCount: 36; ComponentLink1Description: LMX2531 Datasheet; ComponentLink1URL: http://www.national.com/ds/LM/LMX2531.pdf; ComponentLink2Description: LMX2531 Web Page; ComponentLink2URL: http://www.national.com/pf/LM/LMX2531.html; ComponentLink3Description: LQA36A Package Page; ComponentLink3URL: http://www.national.com/packaging/folders/lqa36a.html
footprint LQA36A (PQFN, 36-Leads, Body 6x6mm, Pitch 0.5mm, NSC Recommended)
pins: 1 VCCDIG (power), 2 NC, 3 GND (power), 4 NC, 5 NC, 6 VREGBUF (power), 7 NC, 8 DATA (in), 9 CLK (in), 10 LE (in), 11 CE (in), 12 NC, 13 NC, 14 NC, 15 NC, 16 VCCVCO (power), 17 VREGVCO (power), 18 VREFVCO (power), 19 GND (power), 20 GND (power), 21 FOUT (out), 22 VCCBUF (power), 23 VTUNE (in), 24 CPOUT (out), 25 FLOUT (out), 26 VREGPLL1 (power), 27 VCCPLL (power), 28 VREGPLL2 (power), 29 NC, 30 FTEST/LD (out), 31 OSCIN (in), 32 OSCIN (in), 33 TEST (out), 34 GND (power), 35 NC, 36 VREGDIG (power), 37 GND (power), 38 GND (power), 39 NC

## LMX2531LQ1910E
designator U?
High Performance Frequency Synthesizer System with Integrated VCO, 38-pin LLP; PartNumber: LMX2531LQ1910E; Manufacturer: National Semiconductor; PackageTopMarking: NS*UZXYTT*311910EB; PowerWise: Y; CompType: Interface IC; Published: 4-Dec-2008; LatestRevisionDate: 1-Mar-2010; LatestRevisionNote: Updated datasheet to revision Dec-2009; DatasheetVersion: Dec-2009; PackageVersion: revC, Oct-2003; PackageReference: LQA36A; Publisher: Altium Limited; PackageDescription: LLP, Plastic, Quad, 6 x 6 x 0.8mm Body, 36 Lead, 0.5mm Pitch, Custom; RoHS: Y; PinCount: 36; ComponentLink1Description: LMX2531LQ1910EDatasheet; ComponentLink1URL: http://www.national.com/ds/LM/LMX2531.pdf; ComponentLink2Description: LMX2531LQ1910E Web Page; ComponentLink2URL: http://www.national.com/pf/LM/LMX2531LQ1910E.html; ComponentLink3Description: LQA36A Package Page; ComponentLink3URL: http://www.national.com/packaging/folders/lqa36a.html
footprint LQA36A (PQFN, 36-Leads, Body 6x6mm, Pitch 0.5mm, NSC Recommended)
pins: 1 VCCDIG (power), 2 NC, 3 GND (power), 4 NC, 5 NC, 6 VREGBUF (power), 7 NC, 8 DATA (in), 9 CLK (in), 10 LE (in), 11 CE (in), 12 NC, 13 NC, 14 NC, 15 NC, 16 VCCVCO (power), 17 VREGVCO (power), 18 VREFVCO (power), 19 GND (power), 20 GND (power), 21 FOUT (out), 22 VCCBUF (power), 23 VTUNE (in), 24 CPOUT (out), 25 FLOUT (out), 26 VREGPLL1 (power), 27 VCCPLL (power), 28 VREGPLL2 (power), 29 NC, 30 FTEST/LD (out), 31 OSCIN (in), 32 OSCIN (in), 33 TEST (out), 34 GND (power), 35 NC, 36 VREGDIG (power), 37 GND (power), 38 GND (power), 39 NC

## LMX2531LQ1910E/NOPB
designator U?
High Performance Frequency Synthesizer System with Integrated VCO, 36-pin LLP, Pb-Free; PartNumber: LMX2531LQ1910E/NOPB; Manufacturer: National Semiconductor; PackageTopMarking: NS*UZXYTTE#*311910EB; PowerWise: Y; CompType: Interface IC; Published: 1-Mar-2010; DatasheetVersion: Dec-2009; PackageVersion: revC, Oct-2003; PackageReference: LQA36A; Publisher: Altium Limited; PackageDescription: LLP, Plastic, Quad, 6 x 6 x 0.8mm Body, 36 Lead, 0.5mm Pitch, Custom; Supplier 1: Digi-Key; Supplier Part Number 1: LMX2531LQ1910ETR-ND; Supplier 2: Digi-Key; Supplier Part Number 2: LMX2531LQ1910ECT-ND; Supplier 3: Digi-Key; Supplier Part Number 3: LMX2531LQ1910EDKR-ND; Supplier 4: Farnell; Supplier Part Number 4: 1694620; RoHS: Y; PinCount: 36; ComponentLink1Description: LMX2531 Datasheet; ComponentLink1URL: http://www.national.com/ds/LM/LMX2531.pdf; ComponentLink2Description: LMX2531 Web Page; ComponentLink2URL: http://www.national.com/pf/LM/LMX2531.html; ComponentLink3Description: LQA36A Package Page; ComponentLink3URL: http://www.national.com/packaging/folders/lqa36a.html
footprint LQA36A (PQFN, 36-Leads, Body 6x6mm, Pitch 0.5mm, NSC Recommended)
pins: 1 VCCDIG (power), 2 NC, 3 GND (power), 4 NC, 5 NC, 6 VREGBUF (power), 7 NC, 8 DATA (in), 9 CLK (in), 10 LE (in), 11 CE (in), 12 NC, 13 NC, 14 NC, 15 NC, 16 VCCVCO (power), 17 VREGVCO (power), 18 VREFVCO (power), 19 GND (power), 20 GND (power), 21 FOUT (out), 22 VCCBUF (power), 23 VTUNE (in), 24 CPOUT (out), 25 FLOUT (out), 26 VREGPLL1 (power), 27 VCCPLL (power), 28 VREGPLL2 (power), 29 NC, 30 FTEST/LD (out), 31 OSCIN (in), 32 OSCIN (in), 33 TEST (out), 34 GND (power), 35 NC, 36 VREGDIG (power), 37 GND (power), 38 GND (power), 39 NC

## LMX2531LQ2080E
designator U?
High Performance Frequency Synthesizer System with Integrated VCO, 38-pin LLP; PartNumber: LMX2531LQ2080E; Manufacturer: National Semiconductor; PackageTopMarking: NS*UZXYTT*312080EB; PowerWise: Y; CompType: Interface IC; Published: 4-Dec-2008; LatestRevisionDate: 1-Mar-2010; LatestRevisionNote: Updated datasheet to revision Dec-2009; DatasheetVersion: Dec-2009; PackageVersion: revC, Oct-2003; PackageReference: LQA36A; Publisher: Altium Limited; PackageDescription: LLP, Plastic, Quad, 6 x 6 x 0.8mm Body, 36 Lead, 0.5mm Pitch, Custom; RoHS: Y; PinCount: 36; ComponentLink1Description: LMX2531LQ2080EDatasheet; ComponentLink1URL: http://www.national.com/ds/LM/LMX2531.pdf; ComponentLink2Description: LMX2531LQ2080E Web Page; ComponentLink2URL: http://www.national.com/pf/LM/LMX2531LQ2080E.html; ComponentLink3Description: LQA36A Package Page; ComponentLink3URL: http://www.national.com/packaging/folders/lqa36a.html
footprint LQA36A (PQFN, 36-Leads, Body 6x6mm, Pitch 0.5mm, NSC Recommended)
pins: 1 VCCDIG (power), 2 NC, 3 GND (power), 4 NC, 5 NC, 6 VREGBUF (power), 7 NC, 8 DATA (in), 9 CLK (in), 10 LE (in), 11 CE (in), 12 NC, 13 NC, 14 NC, 15 NC, 16 VCCVCO (power), 17 VREGVCO (power), 18 VREFVCO (power), 19 GND (power), 20 GND (power), 21 FOUT (out), 22 VCCBUF (power), 23 VTUNE (in), 24 CPOUT (out), 25 FLOUT (out), 26 VREGPLL1 (power), 27 VCCPLL (power), 28 VREGPLL2 (power), 29 NC, 30 FTEST/LD (out), 31 OSCIN (in), 32 OSCIN (in), 33 TEST (out), 34 GND (power), 35 NC, 36 VREGDIG (power), 37 GND (power), 38 GND (power), 39 NC

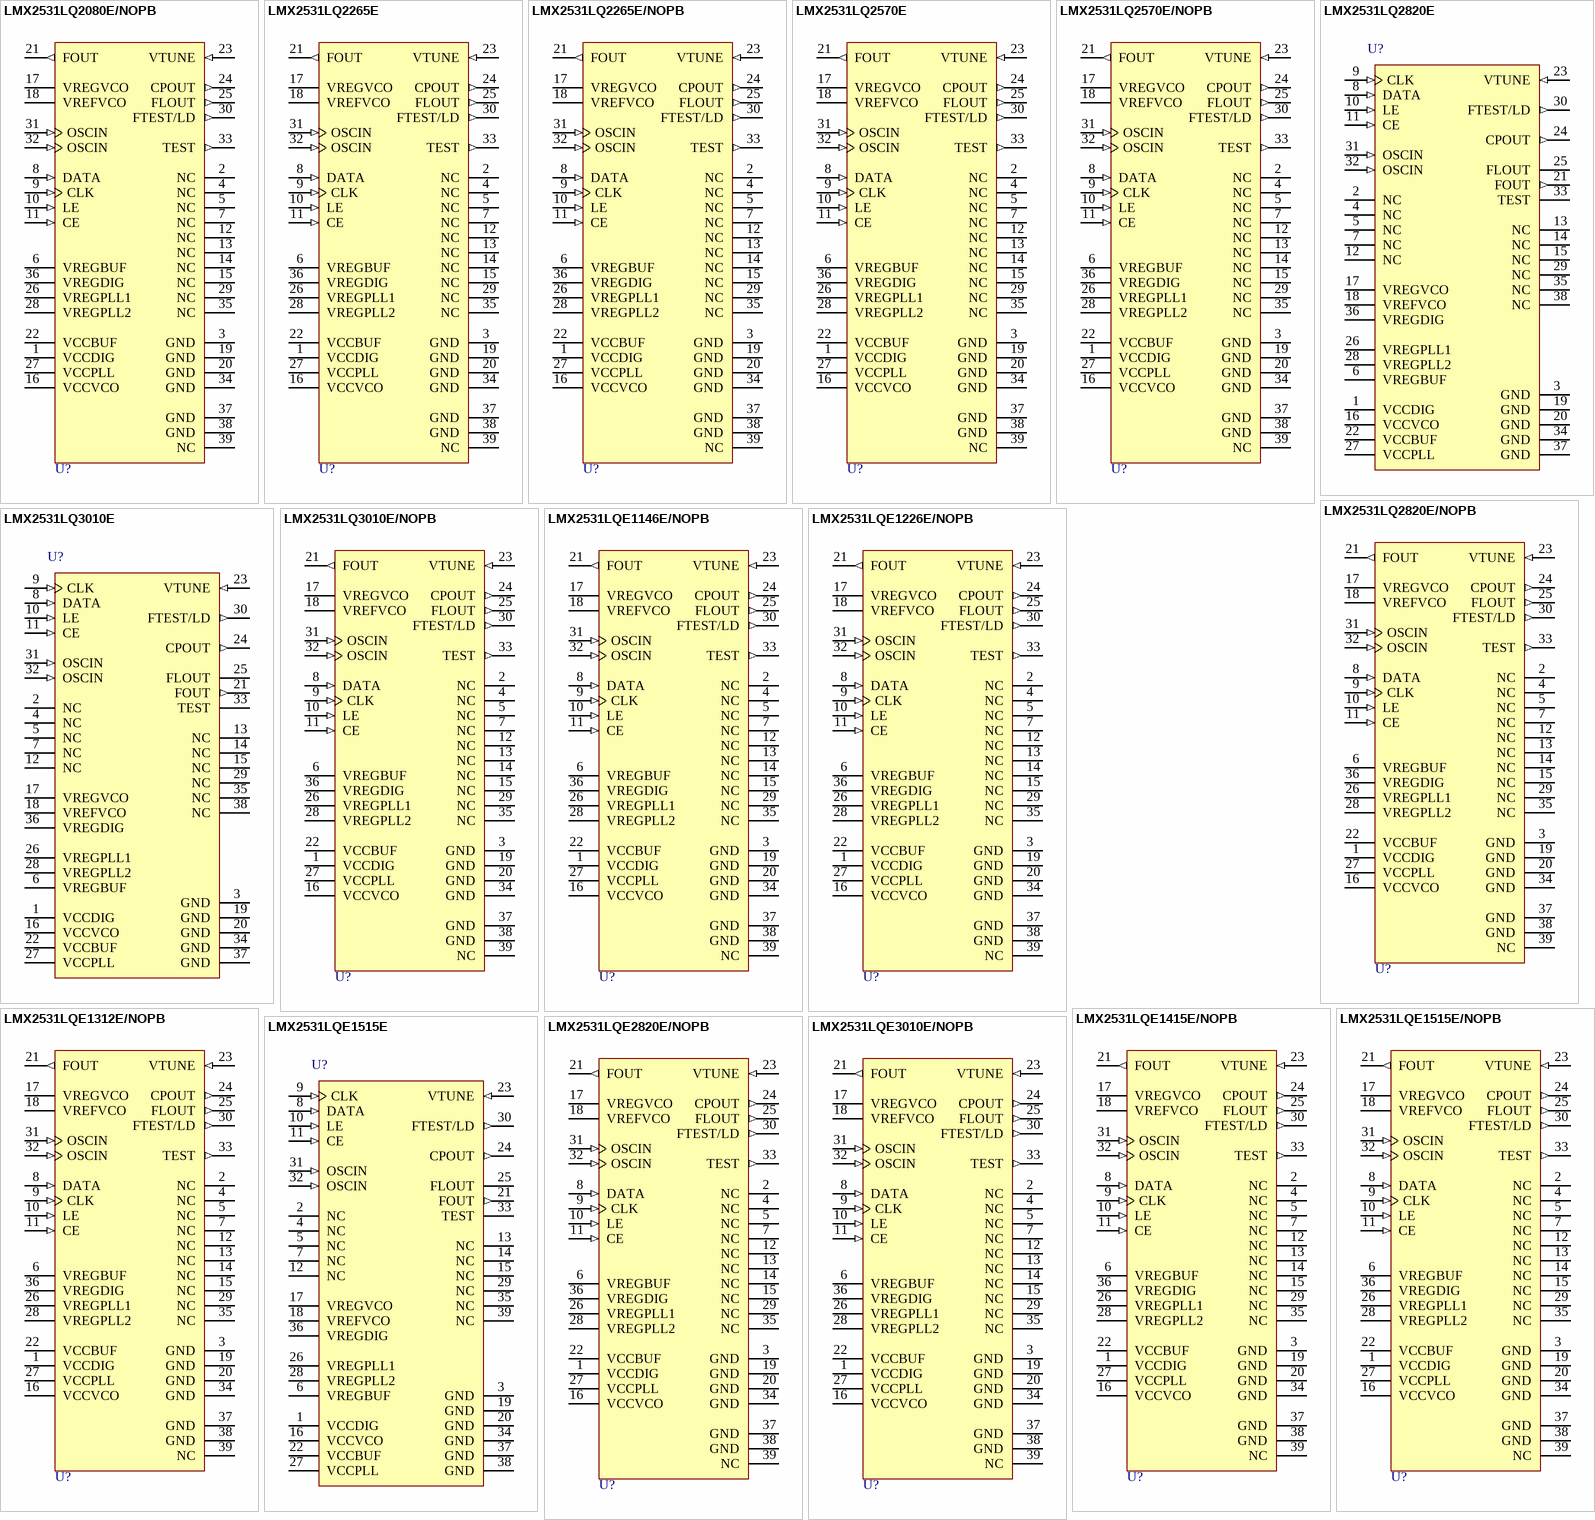
[diagram p96: symbols LMX2531LQ2080E/NOPB to LMX2531LQE3010E/NOPB]

## LMX2531LQ2080E/NOPB
designator U?
High Performance Frequency Synthesizer System with Integrated VCO, 36-pin LLP, Pb-Free; PartNumber: LMX2531LQ2080E/NOPB; Manufacturer: National Semiconductor; PackageTopMarking: NS*UZXYTTE#*312080EB; PowerWise: Y; CompType: Interface IC; Published: 1-Mar-2010; DatasheetVersion: Dec-2009; PackageVersion: revC, Oct-2003; PackageReference: LQA36A; Publisher: Altium Limited; PackageDescription: LLP, Plastic, Quad, 6 x 6 x 0.8mm Body, 36 Lead, 0.5mm Pitch, Custom; Supplier 1: Digi-Key; Supplier Part Number 1: LMX2531LQ2080ETR-ND; Supplier 2: Digi-Key; Supplier Part Number 2: LMX2531LQ2080ECT-ND; Supplier 3: Digi-Key; Supplier Part Number 3: LMX2531LQ2080EDKR-ND; Supplier 4: Farnell; Supplier Part Number 4: 1559768; RoHS: Y; PinCount: 36; ComponentLink1Description: LMX2531 Datasheet; ComponentLink1URL: http://www.national.com/ds/LM/LMX2531.pdf; ComponentLink2Description: LMX2531 Web Page; ComponentLink2URL: http://www.national.com/pf/LM/LMX2531.html; ComponentLink3Description: LQA36A Package Page; ComponentLink3URL: http://www.national.com/packaging/folders/lqa36a.html
footprint LQA36A (PQFN, 36-Leads, Body 6x6mm, Pitch 0.5mm, NSC Recommended)
pins: 1 VCCDIG (power), 2 NC, 3 GND (power), 4 NC, 5 NC, 6 VREGBUF (power), 7 NC, 8 DATA (in), 9 CLK (in), 10 LE (in), 11 CE (in), 12 NC, 13 NC, 14 NC, 15 NC, 16 VCCVCO (power), 17 VREGVCO (power), 18 VREFVCO (power), 19 GND (power), 20 GND (power), 21 FOUT (out), 22 VCCBUF (power), 23 VTUNE (in), 24 CPOUT (out), 25 FLOUT (out), 26 VREGPLL1 (power), 27 VCCPLL (power), 28 VREGPLL2 (power), 29 NC, 30 FTEST/LD (out), 31 OSCIN (in), 32 OSCIN (in), 33 TEST (out), 34 GND (power), 35 NC, 36 VREGDIG (power), 37 GND (power), 38 GND (power), 39 NC

## LMX2531LQ2265E
designator U?
High Performance Frequency Synthesizer System with Integrated VCO, 38-pin LLP; PartNumber: LMX2531LQ2265E; Manufacturer: National Semiconductor; PackageTopMarking: NS*UZXYTT*312265ED; PowerWise: Y; CompType: Interface IC; Published: 4-Dec-2008; LatestRevisionDate: 1-Mar-2010; LatestRevisionNote: Updated datasheet to revision Dec-2009; DatasheetVersion: Dec-2009; PackageVersion: revC, Oct-2003; PackageReference: LQA36A; Publisher: Altium Limited; PackageDescription: LLP, Plastic, Quad, 6 x 6 x 0.8mm Body, 36 Lead, 0.5mm Pitch, Custom; RoHS: N; PinCount: 36; ComponentLink1Description: LMX2531LQ2265EDatasheet; ComponentLink1URL: http://www.national.com/ds/LM/LMX2531.pdf; ComponentLink2Description: LMX2531LQ2265E Web Page; ComponentLink2URL: http://www.national.com/pf/LM/LMX2531LQ2265E.html; ComponentLink3Description: LQA36A Package Page; ComponentLink3URL: http://www.national.com/packaging/folders/lqa36a.html
footprint LQA36A (PQFN, 36-Leads, Body 6x6mm, Pitch 0.5mm, NSC Recommended)
pins: 1 VCCDIG (power), 2 NC, 3 GND (power), 4 NC, 5 NC, 6 VREGBUF (power), 7 NC, 8 DATA (in), 9 CLK (in), 10 LE (in), 11 CE (in), 12 NC, 13 NC, 14 NC, 15 NC, 16 VCCVCO (power), 17 VREGVCO (power), 18 VREFVCO (power), 19 GND (power), 20 GND (power), 21 FOUT (out), 22 VCCBUF (power), 23 VTUNE (in), 24 CPOUT (out), 25 FLOUT (out), 26 VREGPLL1 (power), 27 VCCPLL (power), 28 VREGPLL2 (power), 29 NC, 30 FTEST/LD (out), 31 OSCIN (in), 32 OSCIN (in), 33 TEST (out), 34 GND (power), 35 NC, 36 VREGDIG (power), 37 GND (power), 38 GND (power), 39 NC

## LMX2531LQ2265E/NOPB
designator U?
High Performance Frequency Synthesizer System with Integrated VCO, 36-pin LLP, Pb-Free; PartNumber: LMX2531LQ2265E/NOPB; Manufacturer: National Semiconductor; PackageTopMarking: NS*UZXYTTE#*312265ED; PowerWise: Y; CompType: Interface IC; Published: 1-Mar-2010; DatasheetVersion: Dec-2009; PackageVersion: revC, Oct-2003; PackageReference: LQA36A; Publisher: Altium Limited; PackageDescription: LLP, Plastic, Quad, 6 x 6 x 0.8mm Body, 36 Lead, 0.5mm Pitch, Custom; Supplier 1: Digi-Key; Supplier Part Number 1: LMX2531LQ2265ETR-ND; Supplier 2: Digi-Key; Supplier Part Number 2: LMX2531LQ2265ECT-ND; Supplier 3: Digi-Key; Supplier Part Number 3: LMX2531LQ2265EDKR-ND; Supplier 4: Farnell; Supplier Part Number 4: 1694615; RoHS: Y; PinCount: 36; ComponentLink1Description: LMX2531 Datasheet; ComponentLink1URL: http://www.national.com/ds/LM/LMX2531.pdf; ComponentLink2Description: LMX2531 Web Page; ComponentLink2URL: http://www.national.com/pf/LM/LMX2531.html; ComponentLink3Description: LQA36A Package Page; ComponentLink3URL: http://www.national.com/packaging/folders/lqa36a.html
footprint LQA36A (PQFN, 36-Leads, Body 6x6mm, Pitch 0.5mm, NSC Recommended)
pins: 1 VCCDIG (power), 2 NC, 3 GND (power), 4 NC, 5 NC, 6 VREGBUF (power), 7 NC, 8 DATA (in), 9 CLK (in), 10 LE (in), 11 CE (in), 12 NC, 13 NC, 14 NC, 15 NC, 16 VCCVCO (power), 17 VREGVCO (power), 18 VREFVCO (power), 19 GND (power), 20 GND (power), 21 FOUT (out), 22 VCCBUF (power), 23 VTUNE (in), 24 CPOUT (out), 25 FLOUT (out), 26 VREGPLL1 (power), 27 VCCPLL (power), 28 VREGPLL2 (power), 29 NC, 30 FTEST/LD (out), 31 OSCIN (in), 32 OSCIN (in), 33 TEST (out), 34 GND (power), 35 NC, 36 VREGDIG (power), 37 GND (power), 38 GND (power), 39 NC

## LMX2531LQ2570E
designator U?
High Performance Frequency Synthesizer System with Integrated VCO, 38-pin LLP; PartNumber: LMX2531LQ2570E; Manufacturer: National Semiconductor; PackageTopMarking: NS*UZXYTT*312570EC; PowerWise: Y; CompType: Interface IC; Published: 4-Dec-2008; LatestRevisionDate: 1-Mar-2010; LatestRevisionNote: Updated datasheet to revision Dec-2009; DatasheetVersion: Dec-2009; PackageVersion: revC, Oct-2003; PackageReference: LQA36A; Publisher: Altium Limited; PackageDescription: LLP, Plastic, Quad, 6 x 6 x 0.8mm Body, 36 Lead, 0.5mm Pitch, Custom; RoHS: Y; PinCount: 36; ComponentLink1Description: LMX2531LQ2570EDatasheet; ComponentLink1URL: http://www.national.com/ds/LM/LMX2531.pdf; ComponentLink2Description: LMX2531LQ2570E Web Page; ComponentLink2URL: http://www.national.com/pf/LM/LMX2531LQ2570E.html; ComponentLink3Description: LQA36A Package Page; ComponentLink3URL: http://www.national.com/packaging/folders/lqa36a.html
footprint LQA36A (PQFN, 36-Leads, Body 6x6mm, Pitch 0.5mm, NSC Recommended)
pins: 1 VCCDIG (power), 2 NC, 3 GND (power), 4 NC, 5 NC, 6 VREGBUF (power), 7 NC, 8 DATA (in), 9 CLK (in), 10 LE (in), 11 CE (in), 12 NC, 13 NC, 14 NC, 15 NC, 16 VCCVCO (power), 17 VREGVCO (power), 18 VREFVCO (power), 19 GND (power), 20 GND (power), 21 FOUT (out), 22 VCCBUF (power), 23 VTUNE (in), 24 CPOUT (out), 25 FLOUT (out), 26 VREGPLL1 (power), 27 VCCPLL (power), 28 VREGPLL2 (power), 29 NC, 30 FTEST/LD (out), 31 OSCIN (in), 32 OSCIN (in), 33 TEST (out), 34 GND (power), 35 NC, 36 VREGDIG (power), 37 GND (power), 38 GND (power), 39 NC

## LMX2531LQ2570E/NOPB
designator U?
High Performance Frequency Synthesizer System with Integrated VCO, 36-pin LLP, Pb-Free; PartNumber: LMX2531LQ2570E/NOPB; Manufacturer: National Semiconductor; PackageTopMarking: NS*UZXYTTE#*312570EC; PowerWise: Y; CompType: Interface IC; Published: 1-Mar-2010; DatasheetVersion: Dec-2009; PackageVersion: revC, Oct-2003; PackageReference: LQA36A; Publisher: Altium Limited; PackageDescription: LLP, Plastic, Quad, 6 x 6 x 0.8mm Body, 36 Lead, 0.5mm Pitch, Custom; Supplier 1: Digi-Key; Supplier Part Number 1: LMX2531LQ2570ETR-ND; Supplier 2: Digi-Key; Supplier Part Number 2: LMX2531LQ2570ECT-ND; Supplier 3: Digi-Key; Supplier Part Number 3: LMX2531LQ2570EDKR-ND; Supplier 4: Farnell; Supplier Part Number 4: 1559769; RoHS: Y; PinCount: 36; ComponentLink1Description: LMX2531 Datasheet; ComponentLink1URL: http://www.national.com/ds/LM/LMX2531.pdf; ComponentLink2Description: LMX2531 Web Page; ComponentLink2URL: http://www.national.com/pf/LM/LMX2531.html; ComponentLink3Description: LQA36A Package Page; ComponentLink3URL: http://www.national.com/packaging/folders/lqa36a.html
footprint LQA36A (PQFN, 36-Leads, Body 6x6mm, Pitch 0.5mm, NSC Recommended)
pins: 1 VCCDIG (power), 2 NC, 3 GND (power), 4 NC, 5 NC, 6 VREGBUF (power), 7 NC, 8 DATA (in), 9 CLK (in), 10 LE (in), 11 CE (in), 12 NC, 13 NC, 14 NC, 15 NC, 16 VCCVCO (power), 17 VREGVCO (power), 18 VREFVCO (power), 19 GND (power), 20 GND (power), 21 FOUT (out), 22 VCCBUF (power), 23 VTUNE (in), 24 CPOUT (out), 25 FLOUT (out), 26 VREGPLL1 (power), 27 VCCPLL (power), 28 VREGPLL2 (power), 29 NC, 30 FTEST/LD (out), 31 OSCIN (in), 32 OSCIN (in), 33 TEST (out), 34 GND (power), 35 NC, 36 VREGDIG (power), 37 GND (power), 38 GND (power), 39 NC

## LMX2531LQ2820E
designator U?
High Performance Frequency Synthesizer System with Integrated VCO, 36-pin LLP; PartNumber: LMX2531LQ2820E; Manufacturer: National Semiconductor; PackageTopMarking: NS*UZXYTT*312820E; PowerWise: Y; CompType: Interface IC; Published: 9-Oct-2009; LatestRevisionDate: 1-Mar-2010; LatestRevisionNote: Updated datasheet to revision Dec-2009; DatasheetVersion: Dec-2009; PackageVersion: revB, Feb-2008; PackageReference: LQA36D; Publisher: Altium Limited; PackageDescription: LLP, Plastic, Quad, 6 x 6 x 0.8mm Body, 36 Lead, 0.5mm Pitch, Custom; RoHS: Y; PinCount: 36; ComponentLink1Description: LMX2531LQ2820E Datasheet; ComponentLink1URL: http://www.national.com/ds/LM/LMX2531.pdf; ComponentLink2Description: LMX2531LQ2820E Web Page; ComponentLink2URL: http://www.national.com/pf/LM/LMX2531LQ2820E.html; ComponentLink3Description: LQA36A Package Page; ComponentLink3URL: http://www.national.com/packaging/folders/lqa36a.html
footprint LQA36D (PQFN, 36-Leads, Body 6x6mm, Pitch 0.5mm, NSC Recommended)
pins: 1 VCCDIG (power), 2 NC, 3 GND (power), 4 NC, 5 NC, 6 VREGBUF (power), 7 NC, 8 DATA (in), 9 CLK (in), 10 LE (in), 11 CE (in), 12 NC, 13 NC, 14 NC, 15 NC, 16 VCCVCO (power), 17 VREGVCO (power), 18 VREFVCO (power), 19 GND (power), 20 GND (power), 21 FOUT (out), 22 VCCBUF (power), 23 VTUNE (in), 24 CPOUT (out), 25 FLOUT (oc), 26 VREGPLL1 (power), 27 VCCPLL (power), 28 VREGPLL2 (power), 29 NC, 30 FTEST/LD (out), 31 OSCIN (in), 32 OSCIN (in), 33 TEST, 34 GND (power), 35 NC, 36 VREGDIG (power), 37 GND, 38 NC

## LMX2531LQ2820E/NOPB
designator U?
High Performance Frequency Synthesizer System with Integrated VCO, 36-pin LLP, Pb-Free; PartNumber: LMX2531LQ2820E/NOPB; Manufacturer: National Semiconductor; PackageTopMarking: NS*UZXYTTE#*312820E; PowerWise: Y; CompType: Interface IC; Published: 1-Mar-2010; DatasheetVersion: Dec-2009; PackageVersion: revC, Oct-2003; PackageReference: LQA36A; Publisher: Altium Limited; PackageDescription: LLP, Plastic, Quad, 6 x 6 x 0.8mm Body, 36 Lead, 0.5mm Pitch, Custom; Supplier 1: Digi-Key; Supplier Part Number 1: LMX2531LQ2820E/NOPBTR-ND; Supplier 2: Digi-Key; Supplier Part Number 2: LMX2531LQ2820E/NOPBCT-ND; Supplier 3: Digi-Key; Supplier Part Number 3: LMX2531LQ2820E/NOPBDKR-ND; RoHS: Y; PinCount: 36; ComponentLink1Description: LMX2531 Datasheet; ComponentLink1URL: http://www.national.com/ds/LM/LMX2531.pdf; ComponentLink2Description: LMX2531 Web Page; ComponentLink2URL: http://www.national.com/pf/LM/LMX2531.html; ComponentLink3Description: LQA36A Package Page; ComponentLink3URL: http://www.national.com/packaging/folders/lqa36a.html
footprint LQA36A (PQFN, 36-Leads, Body 6x6mm, Pitch 0.5mm, NSC Recommended)
pins: 1 VCCDIG (power), 2 NC, 3 GND (power), 4 NC, 5 NC, 6 VREGBUF (power), 7 NC, 8 DATA (in), 9 CLK (in), 10 LE (in), 11 CE (in), 12 NC, 13 NC, 14 NC, 15 NC, 16 VCCVCO (power), 17 VREGVCO (power), 18 VREFVCO (power), 19 GND (power), 20 GND (power), 21 FOUT (out), 22 VCCBUF (power), 23 VTUNE (in), 24 CPOUT (out), 25 FLOUT (out), 26 VREGPLL1 (power), 27 VCCPLL (power), 28 VREGPLL2 (power), 29 NC, 30 FTEST/LD (out), 31 OSCIN (in), 32 OSCIN (in), 33 TEST (out), 34 GND (power), 35 NC, 36 VREGDIG (power), 37 GND (power), 38 GND (power), 39 NC